# EAGLE library part ATTINY167 (library RoboJackets-ICs)
AVR series Microcontroller IC 8-Bit 16MHz 16KB (8K x 16) FLASH 20-SOIC https://ww1.microchip.com/downloads/en/DeviceDoc/ATtiny87-167-DataSheet-DS40002167A.pdf
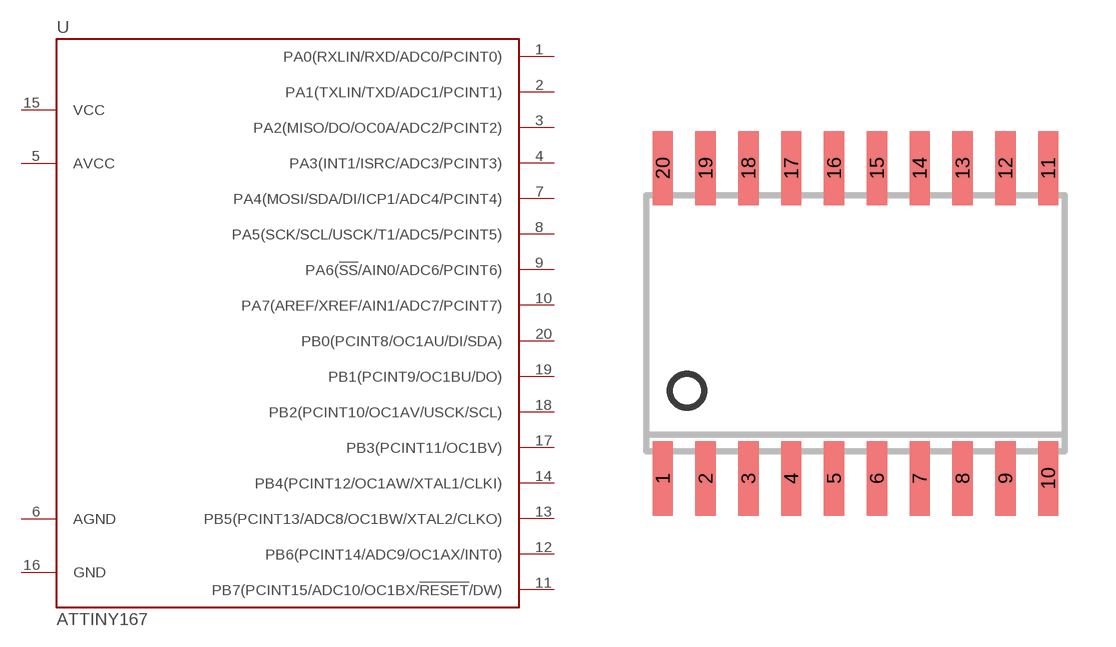
[diagram p5: symbol with the pads of SOIC-20; footprint SOIC-20]

Designator prefix U

## ATTINY167 (DKPN: ATTINY167-SU-ND; MPN: ATTINY167-SU)  [SOIC-20]
1  PA0(RXLIN/RXD/ADC0/PCINT0)
2  PA1(TXLIN/TXD/ADC1/PCINT1)
3  PA2(MISO/DO/OC0A/ADC2/PCINT2)
4  PA3(INT1/ISRC/ADC3/PCINT3)
5  AVCC
6  AGND
7  PA4(MOSI/SDA/DI/ICP1/ADC4/PCINT4)
8  PA5(SCK/SCL/USCK/T1/ADC5/PCINT5)
9  PA6(!SS!/AIN0/ADC6/PCINT6)
10  PA7(AREF/XREF/AIN1/ADC7/PCINT7)
11  PB7(PCINT15/ADC10/OC1BX/!RESET!/DW)
12  PB6(PCINT14/ADC9/OC1AX/INT0)
13  PB5(PCINT13/ADC8/OC1BW/XTAL2/CLKO)
14  PB4(PCINT12/OC1AW/XTAL1/CLKI)
15  VCC
16  GND
17  PB3(PCINT11/OC1BV)
18  PB2(PCINT10/OC1AV/USCK/SCL)
19  PB1(PCINT9/OC1BU/DO)
20  PB0(PCINT8/OC1AU/DI/SDA)

## Footprint SOIC-20 (pad centres in mm)
smd 0.6 x 2.2: 1 -5.715,-4.6; 2 -4.445,-4.6; 3 -3.175,-4.6; 4 -1.905,-4.6; 5 -0.635,-4.6; 6 0.635,-4.6; 7 1.905,-4.6; 8 3.175,-4.6; 9 4.445,-4.6; 10 5.715,-4.6; 11 5.715,4.6; 12 4.445,4.6; 13 3.175,4.6; 14 1.905,4.6; 15 0.635,4.6; 16 -0.635,4.6; 17 -1.905,4.6; 18 -3.175,4.6; 19 -4.445,4.6; 20 -5.715,4.6